# EAGLE library part USB3500-30-A-KIT (library USB3500-30-A-KIT)
USB Connectors Micro B Skt, Mid Mount-SMT, R/A, 30u", With Peg, T&R, IP67 + USBTJ-02 Gasket Source: Datasheet <https://gct.co/files/drawings/usb3500.pdf>
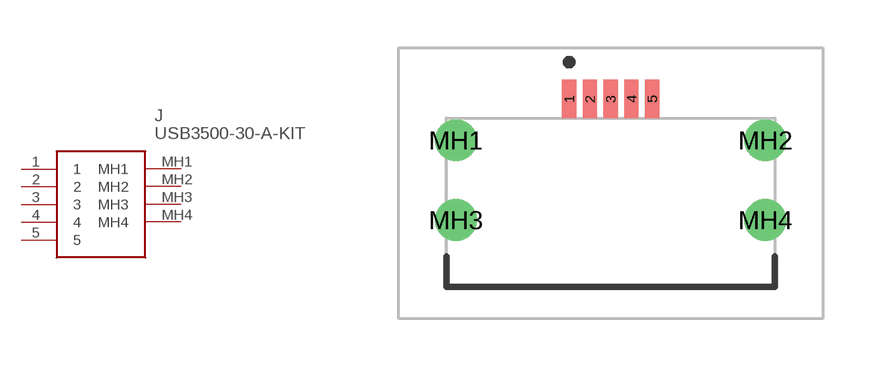
[diagram p0: symbol with the pads of USB350030AKIT; footprint USB350030AKIT]

Designator prefix J

## USB3500-30-A-KIT (Description: USB Connectors Micro B Skt, Mid Mount-SMT, R/A, 30u", With Peg, T&R, IP67 + USBTJ-02 Gasket; Height: 2.8mm; Manufacturer_Name: GCT (GLOBAL CONNECTOR TECHNOLOGY); Manufacturer_Part_Number: USB3500-30-A-KIT; Mouser_Part_Number: 640-USB3500-30-A-KIT; Mouser_Price-Stock: https://www.mouser.co.uk/ProductDetail/GCT/USB3500-30-A-KIT?qs=KUoIvG%2F9IlZmD2kH2DfgYg%3D%3D)  [USB350030AKIT]
1  1
2  2
3  3
4  4
5  5
MH1  MH1
MH2  MH2
MH3  MH3
MH4  MH4

## Footprint USB350030AKIT (pad centres in mm)
USB3500-30-A-KIT-1
smd 0.45 x 1.2: 1 -1.3,3.8; 2 -0.65,3.8; 3 0,3.8; 4 0.65,3.8; 5 1.3,3.8
drill 0.8 pad 1.2: MH1 -4.85,2.5; MH2 4.85,2.5; MH3 -4.85,0; MH4 4.85,0